# Altium footprint library cstce_3_320x130x70.PcbLib: 1 footprints
Each footprint in its own frame and in the unit in brackets; x right, y up, seen from the top. Pads: shape width x height; smd on the part's side, far side on the other; paste and mask are expansions set on the pad; w line width, h text height; cw(c..) or ccw(c..) is an arc to the next point about the centre after c.
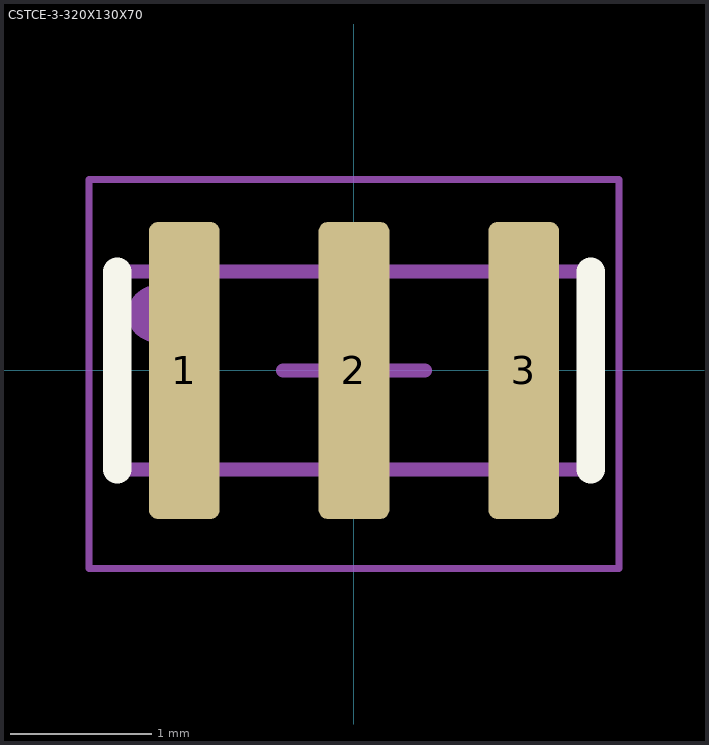
[diagram p0: the footprint, top view; thin cyan lines are the x and y axes]

## CSTCE-3-320X130X70 [mm]
height 0.7
pads (3):
  rrect25% 0.5x2.1 smd paste-0.025 mask+0.1: 1(-1.2,0) 2(0,0) 3(1.2,0)
Top Overlay:
  lines w0.2: -1.675,-0.7 -1.675,0.7 ; 1.675,-0.7 1.675,0.7
Top Comment:
  text ".Comment" at 0.9,1.6 h1.2
Top Designator:
  text ".Designator" at -0.4,1.6 h1.2
Top Component Outline:
  circle w0.2: c-1.4,0.4 r0.1
  lines w0.1: -1.675,-0.7 -1.675,0.7 1.675,0.7 1.675,-0.7 -1.675,-0.7
Top Courtyard (Mech15):
  lines w0.05: -1.875,-1.4 -1.875,1.35 1.875,1.35 1.875,-1.4 -1.875,-1.4
  lines w0.1: -0.5,0 0.5,0 ; 0,-0.5 0,0.5
3D body "CSTCE12M2G52A-R0.STEP": height 0.8, standoff 0, extent -1.6,-0.65 1.6,0.65